# EAGLE library part A8904SLB (library allegro)
Three-Phase Brushless DC Motor Controller/Driver with Back-EMF Sensing For sensorless motors, uses back-EMF sensing instead of hall effect commutation. Temp range -20 to 85 C
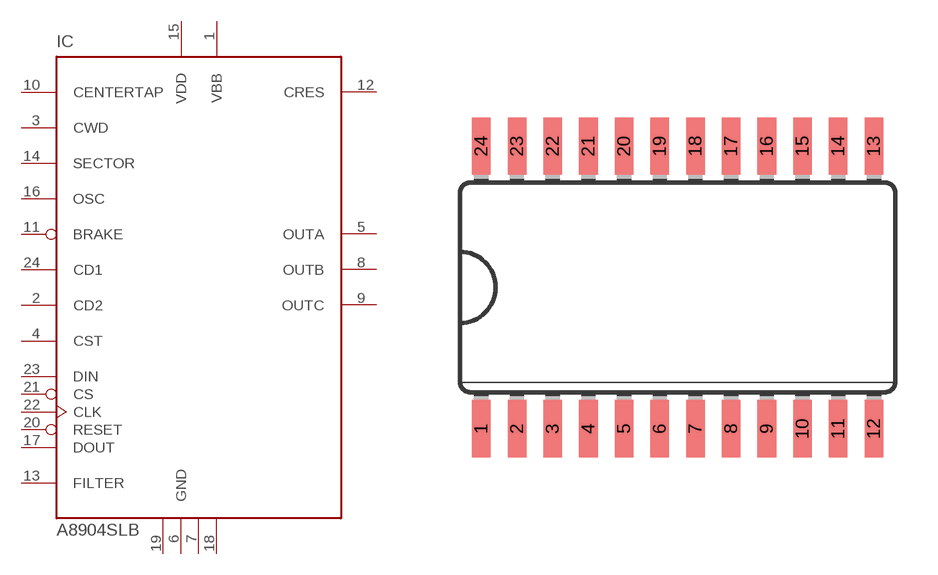
[diagram p9: symbol with the pads of SO24L; footprint SO24L]

Designator prefix IC

## A8904SLB  [SO24L]
1  VBB  pwr
2  CD2  in
3  CWD  in
4  CST  in
5  OUTA  out
6  GND  pwr
7  GND2  pwr
8  OUTB  out
9  OUTC  out
10  CENTERTAP  in
11  BRAKE  in
12  CRES
13  FILTER  in
14  SECTOR  in
15  VDD  pwr
16  OSC  in
17  DOUT  out
18  GND3  pwr
19  GND8  pwr
20  RESET  in
21  CS  in
22  CLK  in
23  DIN  in
24  CD1  in

## Footprint SO24L (pad centres in mm)
24-pin Small Outline Package, wide
smd 0.66 x 2.032: 1 -6.985,-5.029; 2 -5.715,-5.029; 3 -4.445,-5.029; 4 -3.175,-5.029; 5 -1.905,-5.029; 6 -0.635,-5.029; 7 0.635,-5.029; 8 1.905,-5.029; 9 3.175,-5.029; 10 4.445,-5.029; 11 5.715,-5.029; 12 6.985,-5.029; 13 6.985,5.029; 14 5.715,5.029; 15 4.445,5.029; 16 3.175,5.029; 17 1.905,5.029; 18 0.635,5.029; 19 -0.635,5.029; 20 -1.905,5.029; 21 -3.175,5.029; 22 -4.445,5.029; 23 -5.715,5.029; 24 -6.985,5.029